# EAGLE library part IS45S32160F (library Alpha-IC)
16Mx32, 512Mb SDRAM Clock frequency: 166, 143 MHz
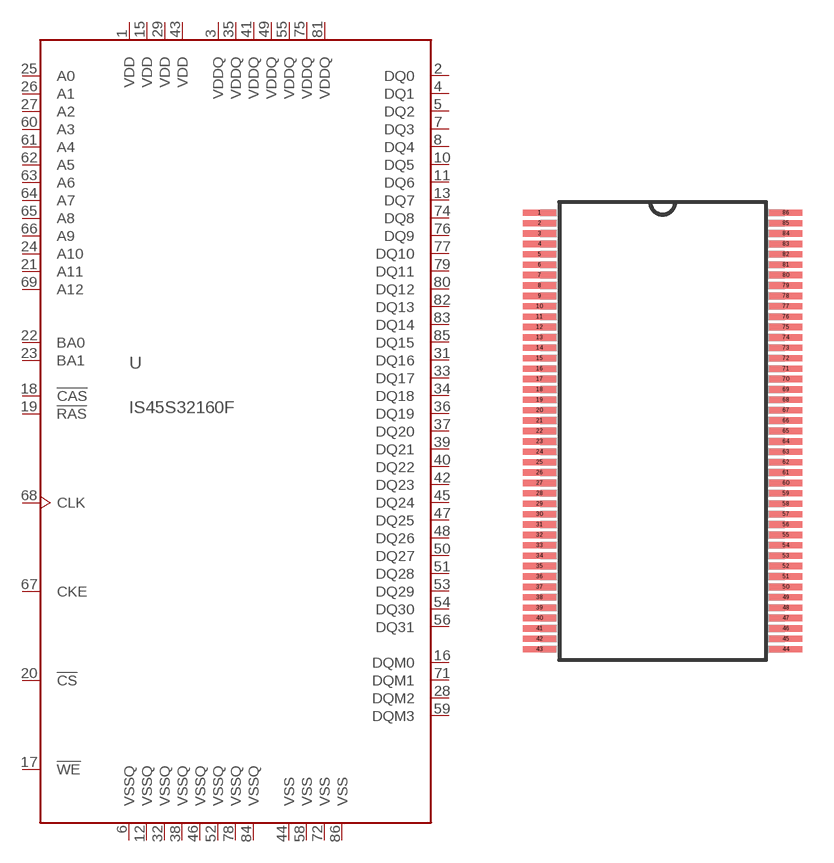
[diagram p0: symbol with the pads of TSOP2-86L; footprint TSOP2-86L]

Designator prefix U

## IS45S32160F (MPN: IS45S32160F; SUPPLIER: ISSI)  [TSOP2-86L]
1  VDD  pwr
2  DQ0
3  VDDQ  pwr
4  DQ1
5  DQ2
6  VSSQ  pwr
7  DQ3
8  DQ4
10  DQ5
11  DQ6
12  VSSQ  pwr
13  DQ7
15  VDD  pwr
16  DQM0
17  !WE  in
18  !CAS
19  !RAS
20  !CS  in
21  A11  in
22  BA0
23  BA1
24  A10  in
25  A0  in
26  A1  in
27  A2  in
28  DQM2
29  VDD  pwr
31  DQ16
32  VSSQ  pwr
33  DQ17
34  DQ18
35  VDDQ  pwr
36  DQ19
37  DQ20
38  VSSQ  pwr
39  DQ21
40  DQ22
41  VDDQ  pwr
42  DQ23
43  VDD  pwr
44  VSS  pwr
45  DQ24
46  VSSQ  pwr
47  DQ25
48  DQ26
49  VDDQ  pwr
50  DQ27
51  DQ28
52  VSSQ  pwr
53  DQ29
54  DQ30
55  VDDQ  pwr
56  DQ31
58  VSS  pwr
59  DQM3
60  A3  in
61  A4  in
62  A5  in
63  A6  in
64  A7  in
65  A8  in
66  A9  in
67  CKE  in
68  CLK  in
69  A12  in
71  DQM1
72  VSS  pwr
74  DQ8
75  VDDQ  pwr
76  DQ9
77  DQ10
78  VSSQ  pwr
79  DQ11
80  DQ12
81  VDDQ  pwr
82  DQ13
83  DQ14
84  VSSQ  pwr
85  DQ15
86  VSS  pwr

## Footprint TSOP2-86L (pad centres in mm)
TSOP2-86L Auto generated by make-symbol-device-package-bsdl.ulp Rev. 44
smd 1.6 x 0.3: 1 -5.93,10.5; 2 -5.93,10; 3 -5.93,9.5; 4 -5.93,9; 5 -5.93,8.5; 6 -5.93,8; 7 -5.93,7.5; 8 -5.93,7; 9 -5.93,6.5; 10 -5.93,6; 11 -5.93,5.5; 12 -5.93,5; 13 -5.93,4.5; 14 -5.93,4; 15 -5.93,3.5; 16 -5.93,3; 17 -5.93,2.5; 18 -5.93,2; 19 -5.93,1.5; 20 -5.93,1; 21 -5.93,0.5; 22 -5.93,0; 23 -5.93,-0.5; 24 -5.93,-1; 25 -5.93,-1.5; 26 -5.93,-2; 27 -5.93,-2.5; 28 -5.93,-3; 29 -5.93,-3.5; 30 -5.93,-4; 31 -5.93,-4.5; 32 -5.93,-5; 33 -5.93,-5.5; 34 -5.93,-6; 35 -5.93,-6.5; 36 -5.93,-7; 37 -5.93,-7.5; 38 -5.93,-8; 39 -5.93,-8.5; 40 -5.93,-9; 41 -5.93,-9.5; 42 -5.93,-10; 43 -5.93,-10.5; 44 5.93,-10.5; 45 5.93,-10; 46 5.93,-9.5; 47 5.93,-9; 48 5.93,-8.5; 49 5.93,-8; 50 5.93,-7.5; 51 5.93,-7; 52 5.93,-6.5; 53 5.93,-6; 54 5.93,-5.5; 55 5.93,-5; 56 5.93,-4.5; 57 5.93,-4; 58 5.93,-3.5; 59 5.93,-3; 60 5.93,-2.5; 61 5.93,-2; 62 5.93,-1.5; 63 5.93,-1; 64 5.93,-0.5; 65 5.93,0; 66 5.93,0.5; 67 5.93,1; 68 5.93,1.5; 69 5.93,2; 70 5.93,2.5; 71 5.93,3; 72 5.93,3.5; 73 5.93,4; 74 5.93,4.5; 75 5.93,5; 76 5.93,5.5; 77 5.93,6; 78 5.93,6.5; 79 5.93,7; 80 5.93,7.5; 81 5.93,8; 82 5.93,8.5; 83 5.93,9; 84 5.93,9.5; 85 5.93,10; 86 5.93,10.5